# EAGLE library part EMC1701 (library MarAlert)
The EMC1701 is a combination high-side current sensing device with precision temperature measurement. It measures the voltage developed across an external sense resistor to represent the high-side current of a battery or voltage regulator.
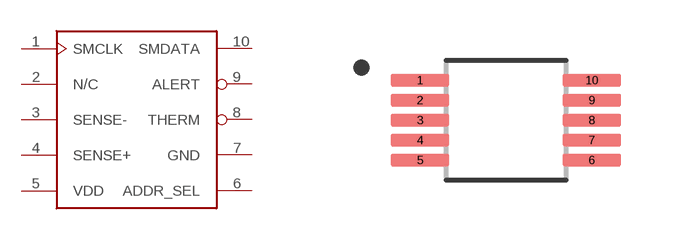
[diagram p0: symbol with the pads of EMC1701; footprint EMC1701]

Designator prefix -

## EMC1701  [EMC1701]
1  SMCLK  in
2  N/C  nc
3  SENSE-  in
4  SENSE+  in
5  VDD  pwr
6  ADDR_SEL  in
7  GND  pwr
8  THERM  out
9  ALERT  out
10  SMDATA  out

## Footprint EMC1701 (pad centres in mm)
EMC1701 High Side Current, Temp and voltage monitor
smd 1.47 x 0.31: 1 -2.15,1; 2 -2.15,0.5; 3 -2.15,0; 4 -2.15,-0.5; 5 -2.15,-1; 6 2.15,-1; 7 2.15,-0.5; 8 2.15,0; 9 2.15,0.5; 10 2.15,1